# EAGLE library part SB1R5 (library LW_DUB)
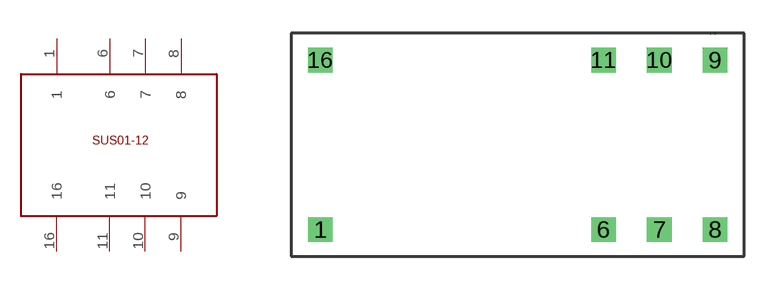
[diagram p9: symbol with the pads of SB1R5; footprint SB1R5]

Designator prefix -

## SB1R5  [SB1R5]
1  1
6  6
7  7
8  8
9  9
10  10
11  11
16  16

## Footprint SB1R5 (pad centres in mm)
drill 0.6 square: 1 0.9,-10.3; 6 13.6,-10.3; 7 16.1,-10.3; 8 18.6,-10.3; 9 18.6,-2.7; 10 16.1,-2.7; 11 13.6,-2.7; 16 0.9,-2.7